# EAGLE library part BENS_LIBRARY_ADS1271EVM_PART (library BBB_ADS1271_cape)
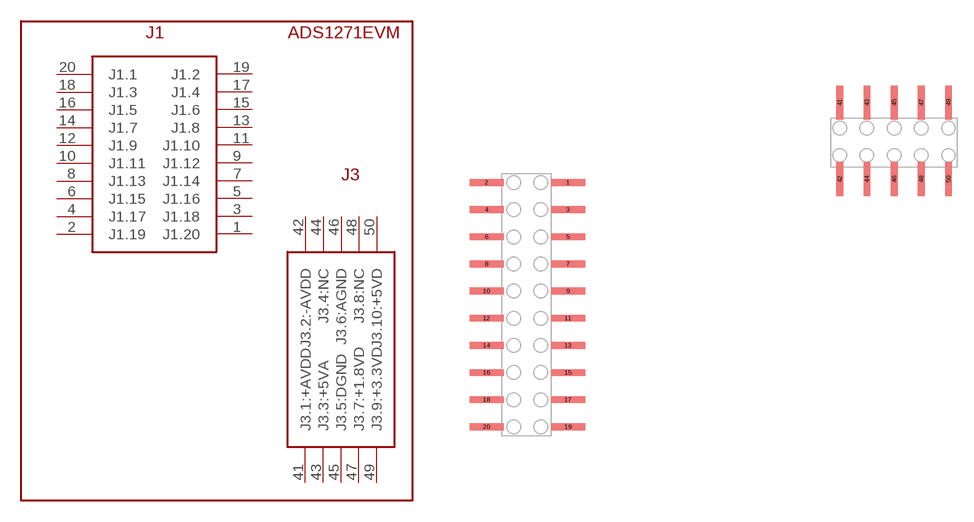
[diagram p5: symbol with the pads of BENS_LIBRARY_ADS1271EVM_PART; footprint BENS_LIBRARY_ADS1271EVM_PART]

Designator prefix -

## BENS_LIBRARY_ADS1271EVM_PART  [BENS_LIBRARY_ADS1271EVM_PART]
1  J1.20
2  J1.19
3  J1.18
4  J1.17
5  J1.16
6  J1.15
7  J1.14
8  J1.13
9  J1.12
10  J1.11
11  J1.10
12  J1.9
13  J1.8
14  J1.7
15  J1.6
16  J1.5
17  J1.4
18  J1.3
19  J1.2
20  J1.1
41  J3.1:+AVDD
42  J3.2:-AVDD
43  J3.3:+5VA
44  J3.4:NC
45  J3.5:DGND
46  J3.6:AGND
47  J3.7:+1.8VD
48  J3.8:NC
49  J3.9:+3.3VD
50  J3.10:+5VD

## Footprint BENS_LIBRARY_ADS1271EVM_PART (pad centres in mm)
smd 3.175 x 0.635: 1 7.62,30.48; 2 0,30.48; 3 7.62,27.94; 4 0,27.94; 5 7.62,25.4; 6 0,25.4; 7 7.62,22.86; 8 0,22.86; 9 7.62,20.32; 10 0,20.32; 11 7.62,17.78; 12 0,17.78; 13 7.62,15.24; 14 0,15.24; 15 7.62,12.7; 16 0,12.7; 17 7.62,10.16; 18 0,10.16; 19 7.62,7.62; 20 0,7.62
smd 0.635 x 3.175: 41 33.02,37.973; 42 33.02,30.797; 43 35.56,37.973; 44 35.56,30.797; 45 38.1,37.973; 46 38.1,30.797; 47 40.64,37.973; 48 40.64,30.797; 49 43.18,37.973; 50 43.18,30.797